# EAGLE library part 614108646521 (library 629004113921_Eagle_WR-USB_rev20c)
WR-COM Type A Horizontal THR Dual Mid-Mount KIND PROPERTIES Durability 5 000 Mating cycles Gender Receptacle Type Stacked Horizontal MATERIALPROPERTIES Insulator Material PA9T Insulator Flammability Rating UL94 V-0 Insulator Color White Contact Material Phosphor Copper Contact Plating 30µ"Gold over Nickel Contact Type Stamped Shielding Material Steel Shielding Plating Matte Tin GENERAL INFORMATION Operating Temperature -40 up to +85 °C ELECTRICAL PROPERTIES Working Voltage 30 V (AC) Withstanding Voltage 100 V (AC) Contact Resistance 30 mΩ <https://katalog.we-online.com/media/images/v2/o161611v209%20Family_ConUSB2_614108646521.jpg> Details see: https://katalog.we-online.com/en/em/COM_2_0_THR_TYPE_A_HORIZONTAL_DUAL_MID_MOUNT Created by Ella Wu 2019-11-05 2019(C) Wurth Elektronik
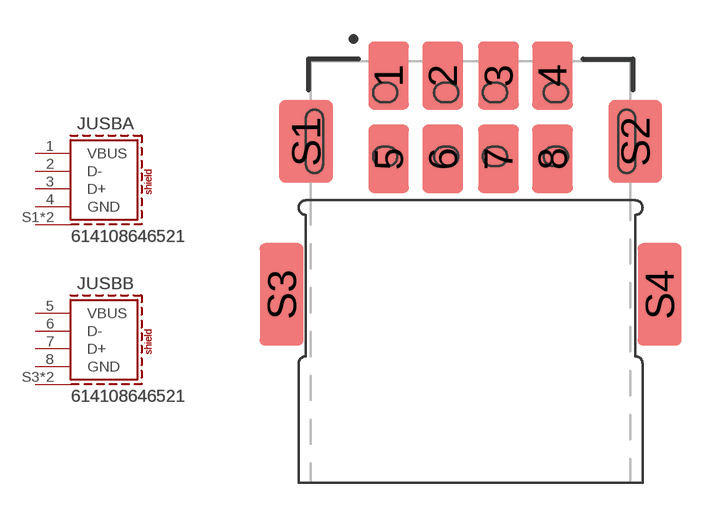
[diagram p26: symbol with the pads of 614108646521; footprint 614108646521]

Designator prefix J; gates USBA=USB2.0_TYPEA USBB=USB2.0_TYPEA

## 614108646521 (APPLICATION: USB 2.0; DATASHEET-URL: https://www.we-online.com/catalog/datasheet/614108646521.pdf; GERDER: Receptacle; INTERFACE-TYPE: Type A; IR1: 2.5A; MOUNT: THR; PACKAGING: Tape amd Reel; PART-NUMBER: 614108646521; PINS: 8; TYPE: Stacked Horizontal; VALUE: 614108646521; WORKING-VOLTAGE: 30V(AC))  [614108646521]
1  USBA:VBUS
2  USBA:D-
3  USBA:D+
4  USBA:GND
5  USBB:VBUS
6  USBB:D-
7  USBB:D+
8  USBB:GND
S1  USBA:SHIELD
S2  USBA:SHIELD
S3  USBB:SHIELD
S4  USBB:SHIELD

## Footprint 614108646521 (pad centres in mm)
WR-COM Type A Horizontal THR Dual Mid-Mount,8Pins
smd 1.68 x 2.8: 1 -3.36,2.7; 2 -1.14,2.7; 3 1.14,2.7; 4 3.36,2.7; 5 -3.36,-0.72; 6 -1.14,-0.72; 7 1.14,-0.72; 8 3.36,-0.72
smd 2.2 x 3.4: S1 -6.75,0; S2 6.75,0
smd 1.8 x 4.2: S3 -7.75,-6.28; S4 7.75,-6.28